# EAGLE library part AN12941A (library Audio-Power-amlifier V.2.0)
Audio power IC for notebook PC
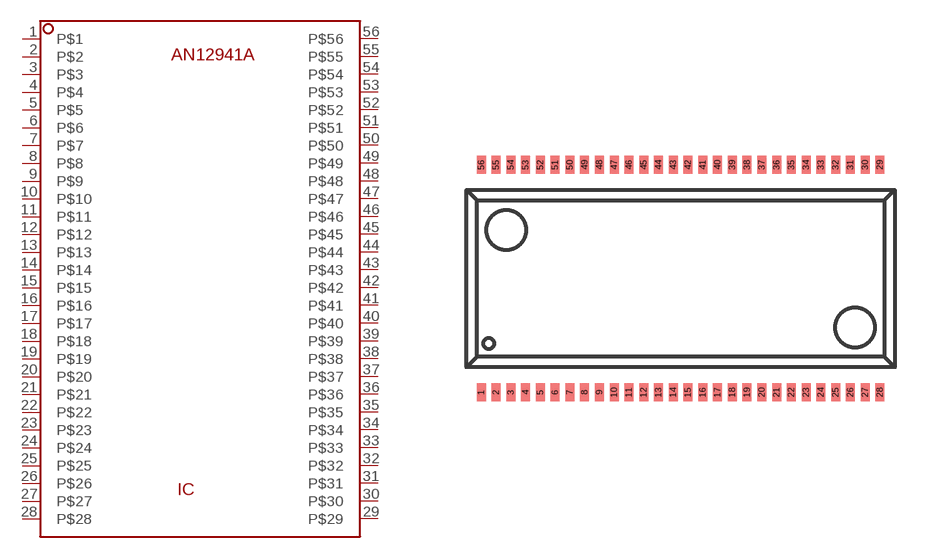
[diagram p50: symbol with the pads of HSOP056-P-0300A; footprint HSOP056-P-0300A]

Designator prefix IC

## AN12941A  [HSOP056-P-0300A]
1  P$1  pwr
2  P$2
3  P$3
4  P$4  in
5  P$5
6  P$6
7  P$7
8  P$8
9  P$9
10  P$10
11  P$11
12  P$12
13  P$13
14  P$14
15  P$15  pwr
16  P$16  in
17  P$17
18  P$18
19  P$19
20  P$20  pwr
21  P$21
22  P$22
23  P$23  pwr
24  P$24  out
25  P$25  out
26  P$26  out
27  P$27  out
28  P$28  pwr
29  P$29  pwr
30  P$30  out
31  P$31  out
32  P$32  out
33  P$33  out
34  P$34  pwr
35  P$35
36  P$36
37  P$37  pwr
38  P$38
39  P$39  out
40  P$40
41  P$41  in
42  P$42  pwr
43  P$43  out
44  P$44  out
45  P$45
46  P$46  out
47  P$47  in
48  P$48  out
49  P$49  out
50  P$50  in
51  P$51  out
52  P$52  in
53  P$53
54  P$54  in
55  P$55  pwr
56  P$56  in

## Footprint HSOP056-P-0300A (pad centres in mm)
smd 0.305 x 0.61: 1 -7,-3.85; 2 -6.5,-3.85; 3 -6,-3.85; 4 -5.5,-3.85; 5 -5,-3.85; 6 -4.5,-3.85; 7 -4,-3.85; 8 -3.5,-3.85; 9 -3,-3.85; 10 -2.5,-3.85; 11 -2,-3.85; 12 -1.5,-3.85; 13 -1,-3.85; 14 -0.5,-3.85; 15 0,-3.85; 16 0.5,-3.85; 17 1,-3.85; 18 1.5,-3.85; 19 2,-3.85; 20 2.5,-3.85; 21 3,-3.85; 22 3.5,-3.85; 23 4,-3.85; 24 4.5,-3.85; 25 5,-3.85; 26 5.5,-3.85; 27 6,-3.85; 28 6.5,-3.85; 29 6.5,3.85; 30 6,3.85; 31 5.5,3.85; 32 5,3.85; 33 4.5,3.85; 34 4,3.85; 35 3.5,3.85; 36 3,3.85; 37 2.5,3.85; 38 2,3.85; 39 1.5,3.85; 40 1,3.85; 41 0.5,3.85; 42 0,3.85; 43 -0.5,3.85; 44 -1,3.85; 45 -1.5,3.85; 46 -2,3.85; 47 -2.5,3.85; 48 -3,3.85; 49 -3.5,3.85; 50 -4,3.85; 51 -4.5,3.85; 52 -5,3.85; 53 -5.5,3.85; 54 -6,3.85; 55 -6.5,3.85; 56 -7,3.85